# EAGLE library part LT5400 (library 25cmsquare)
LT5400 Quad Matched Resistor Network http://cds.linear.com/docs/en/datasheet/5400fb.pdf
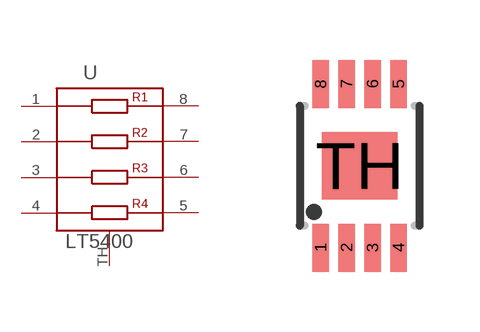
[diagram p3: symbol with the pads of MSOP8; footprint MSOP8]

Designator prefix U

## LT5400  [MSOP8]
1  1  pas
2  2  pas
3  3  pas
4  4  pas
5  5  pas
6  6  pas
7  7  pas
8  8  pas
TH  PAD  pas

## Footprint MSOP8 (pad centres in mm)
smd 0.42 x 1.2: 1 -0.975,-2.05; 2 -0.325,-2.05; 3 0.325,-2.05; 4 0.975,-2.05; 5 0.975,2.05; 6 0.325,2.05; 7 -0.325,2.05; 8 -0.975,2.05
smd 1.88 x 1.68: TH 0,0